# Altium integrated library TI Microcontroller MSP430 16-bit Ultra-Low Power.IntLib: 1463 symbols (part 40 of 130)
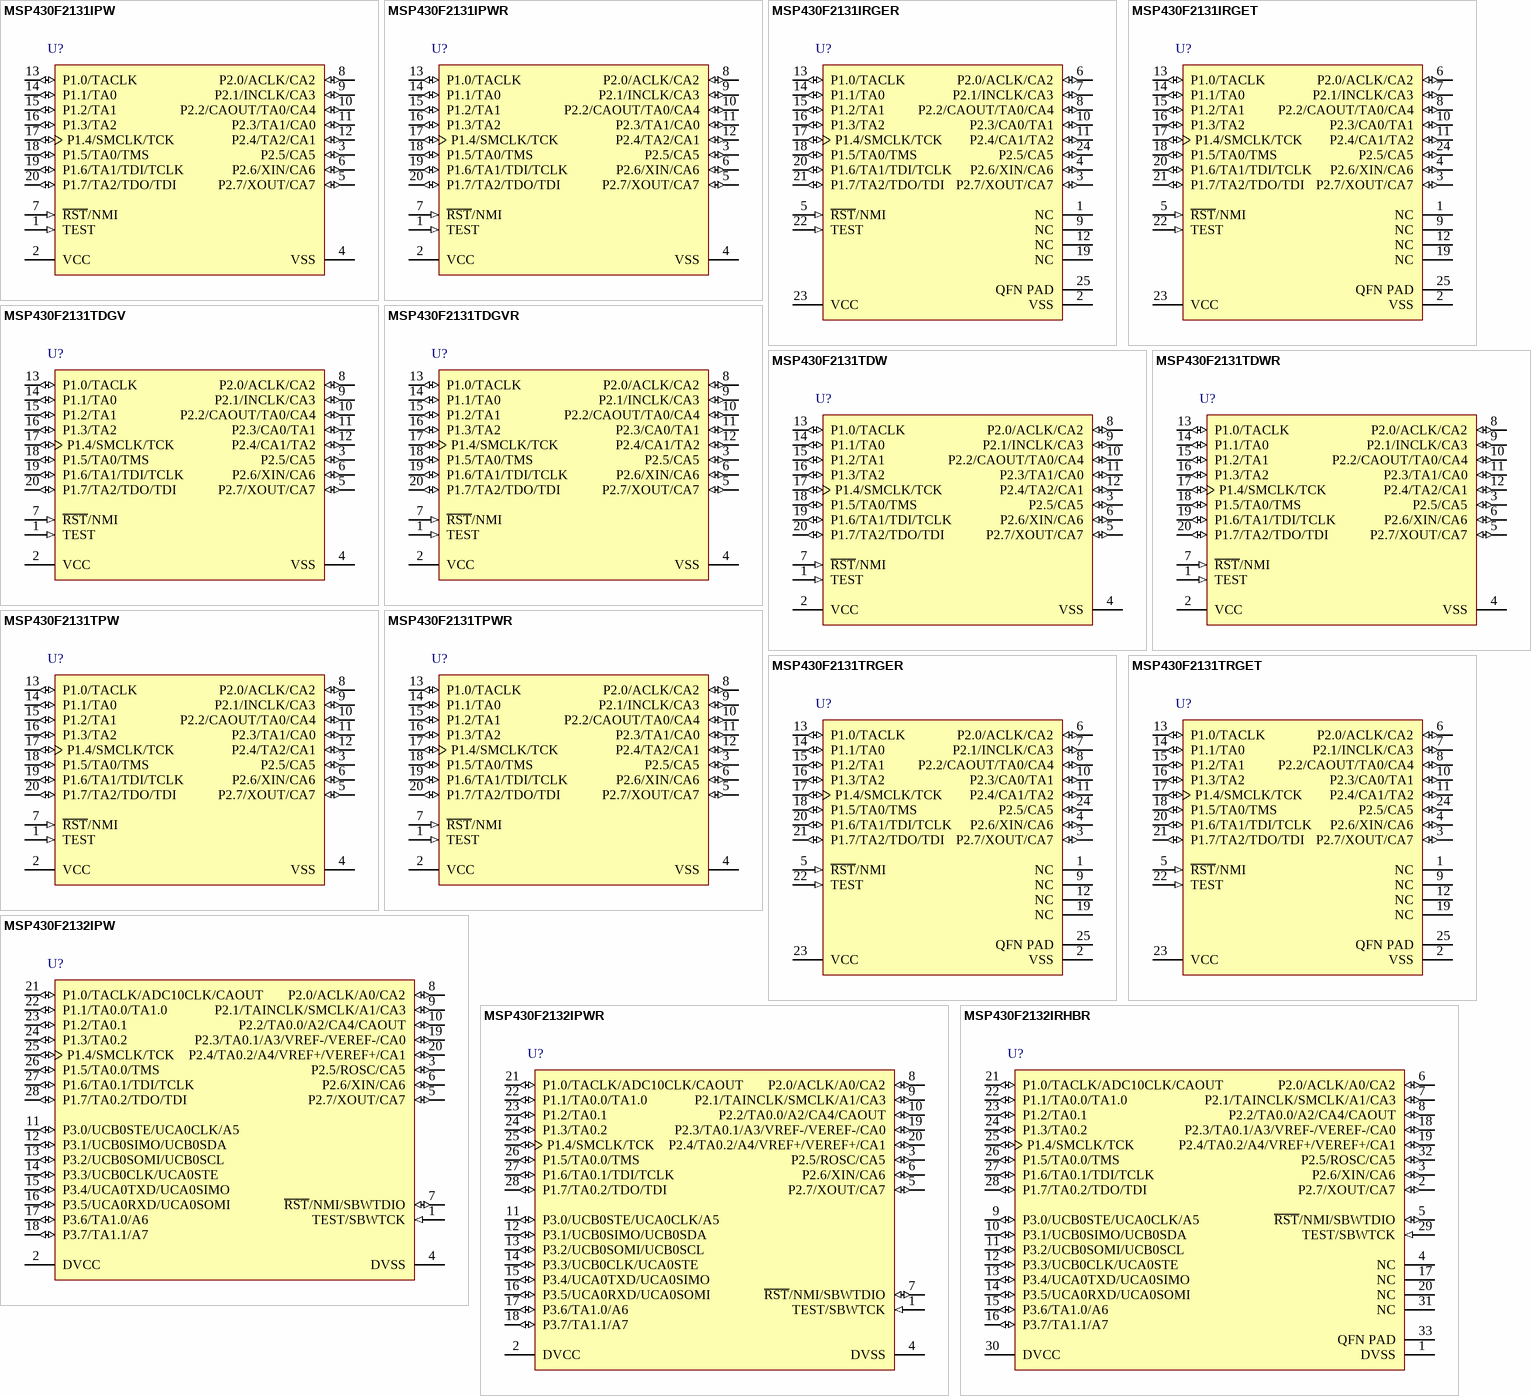
[diagram p356: symbols MSP430F2131IPW to MSP430F2132IRHBR]

## MSP430F2131TDGVR
designator U?
16 MHz Mixed Signal Microcontroller with 8 KB Flash, 256 B SRAM and 16 GPIOs, -40 to 105 degC, 20-pin SOP (DGV), Green (RoHS & no Sb/Br); Manufacturer: Texas Instruments; PartNumber: MSP430F2131TDGVR; ADC: Slope; Brown Out Reset: Yes; Flash(KB): 8; Frequency(MHz): 16; SRAM(B): 256; SubFamily: 2 Series, Extended Temp; Timers - 16-bit: 1; DatasheetVersion: SLAS439F; PackageVersion: 4073251/E; PackageReference: DGV20; PackageDescription: 20-Pin Plastic Small Outline, Body 4.4 x 5 mm, Pitch 0.4 mm; Supplier 1: Digi-Key; Supplier Part Number 1: MSP430F2131TDGV-ND; Supplier 2: Farnell; Supplier Part Number 2: 1753284; Supplier 3: Newark; Supplier Part Number 3: 93R5544; Supplier 4: Mouser; Supplier Part Number 4: 595-MSP430F2131TDGV; Comparators: Yes; Eco-Plan: Green (RoHS & no Sb/Br); GPIO: 16; Watchdog: Yes; Mounting Technology: Surface Mount; Code_JEDEC: MO-194; ComponentLink1Description: Manufacturer URL; ComponentLink1URL: http://www.ti.com/; ComponentLink2Description: Datasheet; ComponentLink2URL: http://www.ti.com/general/docs/lit/getliterature.tsp?genericPartNumber=MSP430F2131&fileType=pdf; ComponentLink3Description: Package Specification; ComponentLink3URL: http://www.ti.com/lit/ml/mpds006c/mpds006c.pdf
footprint TI-DGV20_N (SOP, 20-Leads, Body 5x4.4mm, Pitch 0.4mm, IPC Medium Density)
pins: 1 TEST (in) "Selects test mode for JTAG pins on Port1. The device protection fuse is connected to TEST.", 2 VCC (power) "Supply voltage", 3 P2.5/CA5 (io), 4 VSS (power) "Ground reference", 5 P2.7/XOUT/CA7 (io), 6 P2.6/XIN/CA6 (io), 7 ~{RST}/NMI (in), 8 P2.0/ACLK/CA2 (io), 9 P2.1/INCLK/CA3 (io), 10 P2.2/CAOUT/TA0/CA4 (io), 11 P2.3/CA0/TA1 (io), 12 P2.4/CA1/TA2 (io), 13 P1.0/TACLK (io), 14 P1.1/TA0 (io), 15 P1.2/TA1 (io), 16 P1.3/TA2 (io), 17 P1.4/SMCLK/TCK (io), 18 P1.5/TA0/TMS (io), 19 P1.6/TA1/TDI/TCLK (io), 20 P1.7/TA2/TDO/TDI (io)

## MSP430F2131TDW
designator U?
16 MHz Mixed Signal Microcontroller with 8 KB Flash, 256 B SRAM and 16 GPIOs, -40 to 105 degC, 20-pin SOIC (DW), Green (RoHS & no Sb/Br); Manufacturer: Texas Instruments; PartNumber: MSP430F2131TDW; ADC: Slope; Brown Out Reset: Yes; Flash(KB): 8; Frequency(MHz): 16; SRAM(B): 256; SubFamily: 2 Series, Extended Temp; Timers - 16-bit: 1; DatasheetVersion: SLAS439F; PackageVersion: 4040000-4/G; PackageReference: DW20; PackageDescription: 20-Pin Plastic Small Outline, Body 12.8 x 7.5 mm, Pitch 1.27 mm; Supplier 1: Digi-Key; Supplier Part Number 1: 296-20761-2-ND; Supplier 2: Digi-Key; Supplier Part Number 2: 296-20761-1-ND; Supplier 3: Digi-Key; Supplier Part Number 3: 296-20761-6-ND; Supplier 4: Newark; Supplier Part Number 4: 22M1180; Supplier 5: Mouser; Supplier Part Number 5: 595-MSP430F2131TDGVR; Comparators: Yes; Eco-Plan: Green (RoHS & no Sb/Br); GPIO: 16; Watchdog: Yes; Mounting Technology: Surface Mount; Code_JEDEC: MO-013; ComponentLink1Description: Manufacturer URL; ComponentLink1URL: http://www.ti.com/; ComponentLink2Description: Datasheet; ComponentLink2URL: http://www.ti.com/general/docs/lit/getliterature.tsp?genericPartNumber=MSP430F2131&fileType=pdf; ComponentLink3Description: Package Specification; ComponentLink3URL: http://www.ti.com/lit/ml/mpds173a/mpds173a.pdf
footprint TI-DW20_N (SOIC, 20-Leads, Body 12.8x7.5mm, Pitch 1.27mm, IPC Medium Density)
pins: 1 TEST (in) "Selects test mode for JTAG pins on Port1. The device protection fuse is connected to TEST.", 2 VCC (power) "Supply voltage", 3 P2.5/CA5 (io), 4 VSS (power) "Ground reference", 5 P2.7/XOUT/CA7 (io), 6 P2.6/XIN/CA6 (io), 7 ~{RST}/NMI (in), 8 P2.0/ACLK/CA2 (io), 9 P2.1/INCLK/CA3 (io), 10 P2.2/CAOUT/TA0/CA4 (io), 11 P2.3/TA1/CA0 (io), 12 P2.4/TA2/CA1 (io), 13 P1.0/TACLK (io), 14 P1.1/TA0 (io), 15 P1.2/TA1 (io), 16 P1.3/TA2 (io), 17 P1.4/SMCLK/TCK (io), 18 P1.5/TA0/TMS (io), 19 P1.6/TA1/TDI/TCLK (io), 20 P1.7/TA2/TDO/TDI (io)

## MSP430F2131TDWR
designator U?
16 MHz Mixed Signal Microcontroller with 8 KB Flash, 256 B SRAM and 16 GPIOs, -40 to 105 degC, 20-pin SOIC (DW), Green (RoHS & no Sb/Br); Manufacturer: Texas Instruments; PartNumber: MSP430F2131TDWR; ADC: Slope; Brown Out Reset: Yes; Flash(KB): 8; Frequency(MHz): 16; SRAM(B): 256; SubFamily: 2 Series, Extended Temp; Timers - 16-bit: 1; DatasheetVersion: SLAS439F; PackageVersion: 4040000-4/G; PackageReference: DW20; PackageDescription: 20-Pin Plastic Small Outline, Body 12.8 x 7.5 mm, Pitch 1.27 mm; Supplier 1: Digi-Key; Supplier Part Number 1: MSP430F2131TDW-ND; Supplier 2: Farnell; Supplier Part Number 2: 1753285; Supplier 3: Mouser; Supplier Part Number 3: 595-MSP430F2131TDW; Comparators: Yes; Eco-Plan: Green (RoHS & no Sb/Br); GPIO: 16; Watchdog: Yes; Mounting Technology: Surface Mount; Code_JEDEC: MO-013; ComponentLink1Description: Manufacturer URL; ComponentLink1URL: http://www.ti.com/; ComponentLink2Description: Datasheet; ComponentLink2URL: http://www.ti.com/general/docs/lit/getliterature.tsp?genericPartNumber=MSP430F2131&fileType=pdf; ComponentLink3Description: Package Specification; ComponentLink3URL: http://www.ti.com/lit/ml/mpds173a/mpds173a.pdf
footprint TI-DW20_N (SOIC, 20-Leads, Body 12.8x7.5mm, Pitch 1.27mm, IPC Medium Density)
pins: 1 TEST (in) "Selects test mode for JTAG pins on Port1. The device protection fuse is connected to TEST.", 2 VCC (power) "Supply voltage", 3 P2.5/CA5 (io), 4 VSS (power) "Ground reference", 5 P2.7/XOUT/CA7 (io), 6 P2.6/XIN/CA6 (io), 7 ~{RST}/NMI (in), 8 P2.0/ACLK/CA2 (io), 9 P2.1/INCLK/CA3 (io), 10 P2.2/CAOUT/TA0/CA4 (io), 11 P2.3/TA1/CA0 (io), 12 P2.4/TA2/CA1 (io), 13 P1.0/TACLK (io), 14 P1.1/TA0 (io), 15 P1.2/TA1 (io), 16 P1.3/TA2 (io), 17 P1.4/SMCLK/TCK (io), 18 P1.5/TA0/TMS (io), 19 P1.6/TA1/TDI/TCLK (io), 20 P1.7/TA2/TDO/TDI (io)

## MSP430F2131TPW
designator U?
16 MHz Mixed Signal Microcontroller with 8 KB Flash, 256 B SRAM and 16 GPIOs, -40 to 105 degC, 20-pin SOP (PW), Green (RoHS & no Sb/Br); Manufacturer: Texas Instruments; PartNumber: MSP430F2131TPW; ADC: Slope; Brown Out Reset: Yes; Flash(KB): 8; Frequency(MHz): 16; SRAM(B): 256; SubFamily: 2 Series, Extended Temp; Timers - 16-bit: 1; DatasheetVersion: SLAS439F; PackageVersion: 4040064-5/G; PackageReference: PW20; PackageDescription: 20-Pin Plastic Small Outline, Body 6.5 x 4.4 mm, 0.65 mm Pitch; Supplier 1: Digi-Key; Supplier Part Number 1: 296-20762-2-ND; Supplier 2: Digi-Key; Supplier Part Number 2: 296-20762-1-ND; Supplier 3: Digi-Key; Supplier Part Number 3: 296-20762-6-ND; Supplier 4: Newark; Supplier Part Number 4: 22M1182; Supplier 5: Mouser; Supplier Part Number 5: 595-MSP430F2131TDWR; Comparators: Yes; Eco-Plan: Green (RoHS & no Sb/Br); GPIO: 16; Watchdog: Yes; Mounting Technology: Surface Mount; Code_JEDEC: MO-153; ComponentLink1Description: Manufacturer URL; ComponentLink1URL: http://www.ti.com/; ComponentLink2Description: Datasheet; ComponentLink2URL: http://www.ti.com/general/docs/lit/getliterature.tsp?genericPartNumber=MSP430F2131&fileType=pdf; ComponentLink3Description: Package Specification; ComponentLink3URL: http://www.ti.com.cn/cn/lit/ml/mpds362/mpds362.pdf
footprint TI-PW20_N (SOP, 20-Leads, Body 6.5x4.4mm, Pitch 0.65mm, IPC Medium Density)
pins: 1 TEST (in) "Selects test mode for JTAG pins on Port1. The device protection fuse is connected to TEST.", 2 VCC (power) "Supply voltage", 3 P2.5/CA5 (io), 4 VSS (power) "Ground reference", 5 P2.7/XOUT/CA7 (io), 6 P2.6/XIN/CA6 (io), 7 ~{RST}/NMI (in), 8 P2.0/ACLK/CA2 (io), 9 P2.1/INCLK/CA3 (io), 10 P2.2/CAOUT/TA0/CA4 (io), 11 P2.3/TA1/CA0 (io), 12 P2.4/TA2/CA1 (io), 13 P1.0/TACLK (io), 14 P1.1/TA0 (io), 15 P1.2/TA1 (io), 16 P1.3/TA2 (io), 17 P1.4/SMCLK/TCK (io), 18 P1.5/TA0/TMS (io), 19 P1.6/TA1/TDI/TCLK (io), 20 P1.7/TA2/TDO/TDI (io)

## MSP430F2131TPWR
designator U?
16 MHz Mixed Signal Microcontroller with 8 KB Flash, 256 B SRAM and 16 GPIOs, -40 to 105 degC, 20-pin SOP (PW), Green (RoHS & no Sb/Br); Manufacturer: Texas Instruments; PartNumber: MSP430F2131TPWR; ADC: Slope; Brown Out Reset: Yes; Flash(KB): 8; Frequency(MHz): 16; SRAM(B): 256; SubFamily: 2 Series, Extended Temp; Timers - 16-bit: 1; DatasheetVersion: SLAS439F; PackageVersion: 4040064-5/G; PackageReference: PW20; PackageDescription: 20-Pin Plastic Small Outline, Body 6.5 x 4.4 mm, 0.65 mm Pitch; Supplier 1: Digi-Key; Supplier Part Number 1: MSP430F2131TPW-ND; Supplier 2: Farnell; Supplier Part Number 2: 1753286; Supplier 3: Newark; Supplier Part Number 3: 22M1183; Supplier 4: Mouser; Supplier Part Number 4: 595-MSP430F2131TPW; Comparators: Yes; Eco-Plan: Green (RoHS & no Sb/Br); GPIO: 16; Watchdog: Yes; Mounting Technology: Surface Mount; Code_JEDEC: MO-153; ComponentLink1Description: Manufacturer URL; ComponentLink1URL: http://www.ti.com/; ComponentLink2Description: Datasheet; ComponentLink2URL: http://www.ti.com/general/docs/lit/getliterature.tsp?genericPartNumber=MSP430F2131&fileType=pdf; ComponentLink3Description: Package Specification; ComponentLink3URL: http://www.ti.com.cn/cn/lit/ml/mpds362/mpds362.pdf
footprint TI-PW20_N (SOP, 20-Leads, Body 6.5x4.4mm, Pitch 0.65mm, IPC Medium Density)
pins: 1 TEST (in) "Selects test mode for JTAG pins on Port1. The device protection fuse is connected to TEST.", 2 VCC (power) "Supply voltage", 3 P2.5/CA5 (io), 4 VSS (power) "Ground reference", 5 P2.7/XOUT/CA7 (io), 6 P2.6/XIN/CA6 (io), 7 ~{RST}/NMI (in), 8 P2.0/ACLK/CA2 (io), 9 P2.1/INCLK/CA3 (io), 10 P2.2/CAOUT/TA0/CA4 (io), 11 P2.3/TA1/CA0 (io), 12 P2.4/TA2/CA1 (io), 13 P1.0/TACLK (io), 14 P1.1/TA0 (io), 15 P1.2/TA1 (io), 16 P1.3/TA2 (io), 17 P1.4/SMCLK/TCK (io), 18 P1.5/TA0/TMS (io), 19 P1.6/TA1/TDI/TCLK (io), 20 P1.7/TA2/TDO/TDI (io)

## MSP430F2131TRGER
designator U?
16 MHz Mixed Signal Microcontroller with 8 KB Flash, 256 B SRAM and 16 GPIOs, -40 to 105 degC, 24-pin QFN (RGE), Green (RoHS & no Sb/Br); Manufacturer: Texas Instruments; PartNumber: MSP430F2131TRGER; ADC: Slope; Brown Out Reset: Yes; Flash(KB): 8; Frequency(MHz): 16; SRAM(B): 256; SubFamily: 2 Series, Extended Temp; Timers - 16-bit: 1; DatasheetVersion: SLAS439F; PackageVersion: 4204104/G; PackageReference: RGE24-2450X2450TP; PackageDescription: 24-Pin Plastic Flat Pack, Body 4 x 4 mm, 0.5 mm Pitch; Supplier 1: Digi-Key; Supplier Part Number 1: 296-20763-2-ND; Supplier 2: Digi-Key; Supplier Part Number 2: 296-20763-1-ND; Supplier 3: Digi-Key; Supplier Part Number 3: 296-20763-6-ND; Supplier 4: Newark; Supplier Part Number 4: 22M1184; Supplier 5: Mouser; Supplier Part Number 5: 595-MSP430F2131TPWR; Comparators: Yes; Eco-Plan: Green (RoHS & no Sb/Br); GPIO: 16; Watchdog: Yes; Mounting Technology: Surface Mount; Code_JEDEC: MO-220; ComponentLink1Description: Manufacturer URL; ComponentLink1URL: http://www.ti.com/; ComponentLink2Description: Datasheet; ComponentLink2URL: http://www.ti.com/general/docs/lit/getliterature.tsp?genericPartNumber=MSP430F2131&fileType=pdf; ComponentLink3Description: Package Specification; ComponentLink3URL: http://www.ti.com/litv/pdf/mpqf124f
footprint TI-RGE24-2450X2450TP_N (QFN, 24-Leads, Body 4x4mm, Pitch 0.5mm, Thermal Pad 2.45x2.45mm, IPC Medium Density)
pins: 1 NC "Not internally connected", 2 VSS (power) "Ground reference", 3 P2.7/XOUT/CA7 (io), 4 P2.6/XIN/CA6 (io), 5 ~{RST}/NMI (in), 6 P2.0/ACLK/CA2 (io), 7 P2.1/INCLK/CA3 (io), 8 P2.2/CAOUT/TA0/CA4 (io), 9 NC "Not internally connected", 10 P2.3/CA0/TA1 (io), 11 P2.4/CA1/TA2 (io), 12 NC "Not internally connected", 13 P1.0/TACLK (io), 14 P1.1/TA0 (io), 15 P1.2/TA1 (io), 16 P1.3/TA2 (io), 17 P1.4/SMCLK/TCK (io), 18 P1.5/TA0/TMS (io), 19 NC "Not internally connected", 20 P1.6/TA1/TDI/TCLK (io), 21 P1.7/TA2/TDO/TDI (io), 22 TEST (in) "Selects test mode for JTAG pins on Port1. The device protection fuse is connected to TEST.", 23 VCC (power) "Supply voltage", 24 P2.5/CA5 (io), 25 QFN PAD (power) "QFN package thermal pad. Connect to VSS."

## MSP430F2131TRGET
designator U?
16 MHz Mixed Signal Microcontroller with 8 KB Flash, 256 B SRAM and 16 GPIOs, -40 to 105 degC, 24-pin QFN (RGE), Green (RoHS & no Sb/Br); Manufacturer: Texas Instruments; PartNumber: MSP430F2131TRGET; ADC: Slope; Brown Out Reset: Yes; Flash(KB): 8; Frequency(MHz): 16; SRAM(B): 256; SubFamily: 2 Series, Extended Temp; Timers - 16-bit: 1; DatasheetVersion: SLAS439F; PackageVersion: 4204104/G; PackageReference: RGE24-2450X2450TP; PackageDescription: 24-Pin Plastic Flat Pack, Body 4 x 4 mm, 0.5 mm Pitch; Supplier 1: Digi-Key; Supplier Part Number 1: MSP430F2131TRGER-ND; Supplier 2: Newark; Supplier Part Number 2: 22M1185; Supplier 3: Mouser; Supplier Part Number 3: 595-MSP430F2131TRGER; Comparators: Yes; Eco-Plan: Green (RoHS & no Sb/Br); GPIO: 16; Watchdog: Yes; Mounting Technology: Surface Mount; Code_JEDEC: MO-220; ComponentLink1Description: Manufacturer URL; ComponentLink1URL: http://www.ti.com/; ComponentLink2Description: Datasheet; ComponentLink2URL: http://www.ti.com/general/docs/lit/getliterature.tsp?genericPartNumber=MSP430F2131&fileType=pdf; ComponentLink3Description: Package Specification; ComponentLink3URL: http://www.ti.com/litv/pdf/mpqf124f
footprint TI-RGE24-2450X2450TP_N (QFN, 24-Leads, Body 4x4mm, Pitch 0.5mm, Thermal Pad 2.45x2.45mm, IPC Medium Density)
pins: 1 NC "Not internally connected", 2 VSS (power) "Ground reference", 3 P2.7/XOUT/CA7 (io), 4 P2.6/XIN/CA6 (io), 5 ~{RST}/NMI (in), 6 P2.0/ACLK/CA2 (io), 7 P2.1/INCLK/CA3 (io), 8 P2.2/CAOUT/TA0/CA4 (io), 9 NC "Not internally connected", 10 P2.3/CA0/TA1 (io), 11 P2.4/CA1/TA2 (io), 12 NC "Not internally connected", 13 P1.0/TACLK (io), 14 P1.1/TA0 (io), 15 P1.2/TA1 (io), 16 P1.3/TA2 (io), 17 P1.4/SMCLK/TCK (io), 18 P1.5/TA0/TMS (io), 19 NC "Not internally connected", 20 P1.6/TA1/TDI/TCLK (io), 21 P1.7/TA2/TDO/TDI (io), 22 TEST (in) "Selects test mode for JTAG pins on Port1. The device protection fuse is connected to TEST.", 23 VCC (power) "Supply voltage", 24 P2.5/CA5 (io), 25 QFN PAD (power) "QFN package thermal pad. Connect to VSS."

## MSP430F2132IPW
designator U?
16 MHz Mixed Signal Microcontroller with 8 KB Flash, 512 B SRAM and 24 GPIOs, -40 to 85 degC, 28-pin SOP (PW), Green (RoHS & no Sb/Br); Manufacturer: Texas Instruments; PartNumber: MSP430F2132IPW; ADC: 10-bit SAR; ADC Channels: 8; Brown Out Reset: Yes; Frequency(MHz): 16; GPIO: 24; SRAM(B): 512; SubFamily: 2 Series, Extended Temp; Timers - 16-bit: 2; USCI_A (UART/LIN/IrDA/SPI): 1; DatasheetVersion: SLAS578J; PackageVersion: 4040064-7/G; PackageReference: PW28; PackageDescription: 28-Pin Plastic Small Outline, Body 9.7 x 4.4 mm, Pitch 0.65 mm; Supplier 1: Digi-Key; Supplier Part Number 1: 296-20764-2-ND; Supplier 2: Digi-Key; Supplier Part Number 2: 296-20764-1-ND; Supplier 3: Digi-Key; Supplier Part Number 3: 296-20764-6-ND; Supplier 4: Farnell; Supplier Part Number 4: 1649415; Supplier 5: Newark; Supplier Part Number 5: 22M1186; Supplier 6: Mouser; Supplier Part Number 6: 595-MSP430F2131TRGET; Comparators: Yes; Eco-Plan: Green (RoHS & no Sb/Br); Flash(KB): 8; Temp Sensor: Yes; USCI_B (I2C & SPI): 1; Watchdog: Yes; Mounting Technology: Surface Mount; Code_JEDEC: MO-153; ComponentLink1Description: Manufacturer URL; ComponentLink1URL: http://www.ti.com/; ComponentLink2Description: Datasheet; ComponentLink2URL: http://www.ti.com/general/docs/lit/getliterature.tsp?genericPartNumber=MSP430F2132&fileType=pdf; ComponentLink3Description: Package Specification; ComponentLink3URL: http://www.ti.com/litv/pdf/mpds364
footprint TI-PW28_N (SOP, 28-Leads, Body 9.7x4.4mm, Pitch 0.65mm, IPC Medium Density)
pins: 1 TEST/SBWTCK (in), 2 DVCC (power) "Digital supply voltage", 3 P2.5/ROSC/CA5 (io), 4 DVSS (power) "Digital supply voltage", 5 P2.7/XOUT/CA7 (io), 6 P2.6/XIN/CA6 (io), 7 ~{RST}/NMI/SBWTDIO (io), 8 P2.0/ACLK/A0/CA2 (io), 9 P2.1/TAINCLK/SMCLK/A1/CA3 (io), 10 P2.2/TA0.0/A2/CA4/CAOUT (io), 11 P3.0/UCB0STE/UCA0CLK/A5 (io), 12 P3.1/UCB0SIMO/UCB0SDA (io), 13 P3.2/UCB0SOMI/UCB0SCL (io), 14 P3.3/UCB0CLK/UCA0STE (io), 15 P3.4/UCA0TXD/UCA0SIMO (io), 16 P3.5/UCA0RXD/UCA0SOMI (io), 17 P3.6/TA1.0/A6 (io), 18 P3.7/TA1.1/A7 (io), 19 P2.3/TA0.1/A3/VREF-/VEREF-/CA0 (io), 20 P2.4/TA0.2/A4/VREF+/VEREF+/CA1 (io), 21 P1.0/TACLK/ADC10CLK/CAOUT (io), 22 P1.1/TA0.0/TA1.0 (io), 23 P1.2/TA0.1 (io), 24 P1.3/TA0.2 (io), 25 P1.4/SMCLK/TCK (io), 26 P1.5/TA0.0/TMS (io), 27 P1.6/TA0.1/TDI/TCLK (io), 28 P1.7/TA0.2/TDO/TDI (io)

## MSP430F2132IPWR
designator U?
16 MHz Mixed Signal Microcontroller with 8 KB Flash, 512 B SRAM and 24 GPIOs, -40 to 85 degC, 28-pin SOP (PW), Green (RoHS & no Sb/Br); Manufacturer: Texas Instruments; PartNumber: MSP430F2132IPWR; ADC: 10-bit SAR; ADC Channels: 8; Brown Out Reset: Yes; Frequency(MHz): 16; GPIO: 24; SRAM(B): 512; SubFamily: 2 Series, Extended Temp; Timers - 16-bit: 2; USCI_A (UART/LIN/IrDA/SPI): 1; DatasheetVersion: SLAS578J; PackageVersion: 4040064-7/G; PackageReference: PW28; PackageDescription: 28-Pin Plastic Small Outline, Body 9.7 x 4.4 mm, Pitch 0.65 mm; Supplier 1: Digi-Key; Supplier Part Number 1: 296-33426-5-ND; Supplier 2: Farnell; Supplier Part Number 2: 1649416; Supplier 3: Newark; Supplier Part Number 3: 96M3653; Supplier 4: Mouser; Supplier Part Number 4: 595-MSP430F2132IPW; Comparators: Yes; Eco-Plan: Green (RoHS & no Sb/Br); Flash(KB): 8; Temp Sensor: Yes; USCI_B (I2C & SPI): 1; Watchdog: Yes; Mounting Technology: Surface Mount; Code_JEDEC: MO-153; ComponentLink1Description: Manufacturer URL; ComponentLink1URL: http://www.ti.com/; ComponentLink2Description: Datasheet; ComponentLink2URL: http://www.ti.com/general/docs/lit/getliterature.tsp?genericPartNumber=MSP430F2132&fileType=pdf; ComponentLink3Description: Package Specification; ComponentLink3URL: http://www.ti.com/litv/pdf/mpds364
footprint TI-PW28_N (SOP, 28-Leads, Body 9.7x4.4mm, Pitch 0.65mm, IPC Medium Density)
pins: 1 TEST/SBWTCK (in), 2 DVCC (power) "Digital supply voltage", 3 P2.5/ROSC/CA5 (io), 4 DVSS (power) "Digital supply voltage", 5 P2.7/XOUT/CA7 (io), 6 P2.6/XIN/CA6 (io), 7 ~{RST}/NMI/SBWTDIO (io), 8 P2.0/ACLK/A0/CA2 (io), 9 P2.1/TAINCLK/SMCLK/A1/CA3 (io), 10 P2.2/TA0.0/A2/CA4/CAOUT (io), 11 P3.0/UCB0STE/UCA0CLK/A5 (io), 12 P3.1/UCB0SIMO/UCB0SDA (io), 13 P3.2/UCB0SOMI/UCB0SCL (io), 14 P3.3/UCB0CLK/UCA0STE (io), 15 P3.4/UCA0TXD/UCA0SIMO (io), 16 P3.5/UCA0RXD/UCA0SOMI (io), 17 P3.6/TA1.0/A6 (io), 18 P3.7/TA1.1/A7 (io), 19 P2.3/TA0.1/A3/VREF-/VEREF-/CA0 (io), 20 P2.4/TA0.2/A4/VREF+/VEREF+/CA1 (io), 21 P1.0/TACLK/ADC10CLK/CAOUT (io), 22 P1.1/TA0.0/TA1.0 (io), 23 P1.2/TA0.1 (io), 24 P1.3/TA0.2 (io), 25 P1.4/SMCLK/TCK (io), 26 P1.5/TA0.0/TMS (io), 27 P1.6/TA0.1/TDI/TCLK (io), 28 P1.7/TA0.2/TDO/TDI (io)

## MSP430F2132IRHBR
designator U?
16 MHz Mixed Signal Microcontroller with 8 KB Flash, 512 B SRAM and 24 GPIOs, -40 to 85 degC, 32-pin QFN (RHB), Green (RoHS & no Sb/Br); Manufacturer: Texas Instruments; PartNumber: MSP430F2132IRHBR; ADC: 10-bit SAR; ADC Channels: 8; Brown Out Reset: Yes; Frequency(MHz): 16; GPIO: 24; SRAM(B): 512; SubFamily: 2 Series, Extended Temp; Timers - 16-bit: 2; USCI_A (UART/LIN/IrDA/SPI): 1; DatasheetVersion: SLAS578J; PackageVersion: 4204326/D; PackageReference: RHB32-3450X3450TP; PackageDescription: 32-Pin Plastic Flat Pack, Body 5 x 5 mm, Pitch 0.5 mm; Supplier 1: Digi-Key; Supplier Part Number 1: 296-23367-2-ND; Supplier 2: Digi-Key; Supplier Part Number 2: 296-23367-1-ND; Supplier 3: Digi-Key; Supplier Part Number 3: 296-23367-6-ND; Supplier 4: Farnell; Supplier Part Number 4: 1848734; Supplier 5: Newark; Supplier Part Number 5: 82R7749; Supplier 6: Mouser; Supplier Part Number 6: 595-MSP430F2132IPWR; Comparators: Yes; Eco-Plan: Green (RoHS & no Sb/Br); Flash(KB): 8; Temp Sensor: Yes; USCI_B (I2C & SPI): 1; Watchdog: Yes; Mounting Technology: Surface Mount; Code_JEDEC: MO-220; ComponentLink1Description: Manufacturer URL; ComponentLink1URL: http://www.ti.com/; ComponentLink2Description: Datasheet; ComponentLink2URL: http://www.ti.com/general/docs/lit/getliterature.tsp?genericPartNumber=MSP430F2132&fileType=pdf; ComponentLink3Description: Package Specification; ComponentLink3URL: http://www.ti.com/lit/ml/mpqf130c/mpqf130c.pdf
footprint TI-RHB32-3450X3450TP_N (QFN, 32-Leads, Body 5x5mm, Pitch 0.5mm, Thermal Pad 3.45x3.45mm, IPC Medium Density)
pins: 1 DVSS (power) "Digital supply voltage", 2 P2.7/XOUT/CA7 (io), 3 P2.6/XIN/CA6 (io), 4 NC "Not connected internally. Connection to VSS is recommended.", 5 ~{RST}/NMI/SBWTDIO (io), 6 P2.0/ACLK/A0/CA2 (io), 7 P2.1/TAINCLK/SMCLK/A1/CA3 (io), 8 P2.2/TA0.0/A2/CA4/CAOUT (io), 9 P3.0/UCB0STE/UCA0CLK/A5 (io), 10 P3.1/UCB0SIMO/UCB0SDA (io), 11 P3.2/UCB0SOMI/UCB0SCL (io), 12 P3.3/UCB0CLK/UCA0STE (io), 13 P3.4/UCA0TXD/UCA0SIMO (io), 14 P3.5/UCA0RXD/UCA0SOMI (io), 15 P3.6/TA1.0/A6 (io), 16 P3.7/TA1.1/A7 (io), 17 NC "Not connected internally. Connection to VSS is recommended.", 18 P2.3/TA0.1/A3/VREF-/VEREF-/CA0 (io), 19 P2.4/TA0.2/A4/VREF+/VEREF+/CA1 (io), 20 NC "Not connected internally. Connection to VSS is recommended.", 21 P1.0/TACLK/ADC10CLK/CAOUT (io), 22 P1.1/TA0.0/TA1.0 (io), 23 P1.2/TA0.1 (io), 24 P1.3/TA0.2 (io), 25 P1.4/SMCLK/TCK (io), 26 P1.5/TA0.0/TMS (io), 27 P1.6/TA0.1/TDI/TCLK (io), 28 P1.7/TA0.2/TDO/TDI (io), 29 TEST/SBWTCK (in), 30 DVCC (power) "Digital supply voltage", 31 NC "Not connected internally. Connection to VSS is recommended.", 32 P2.5/ROSC/CA5 (io), 33 QFN PAD (power) "QFN package.pad (RHB, RTV packages). Connection to DVSS is recommended."

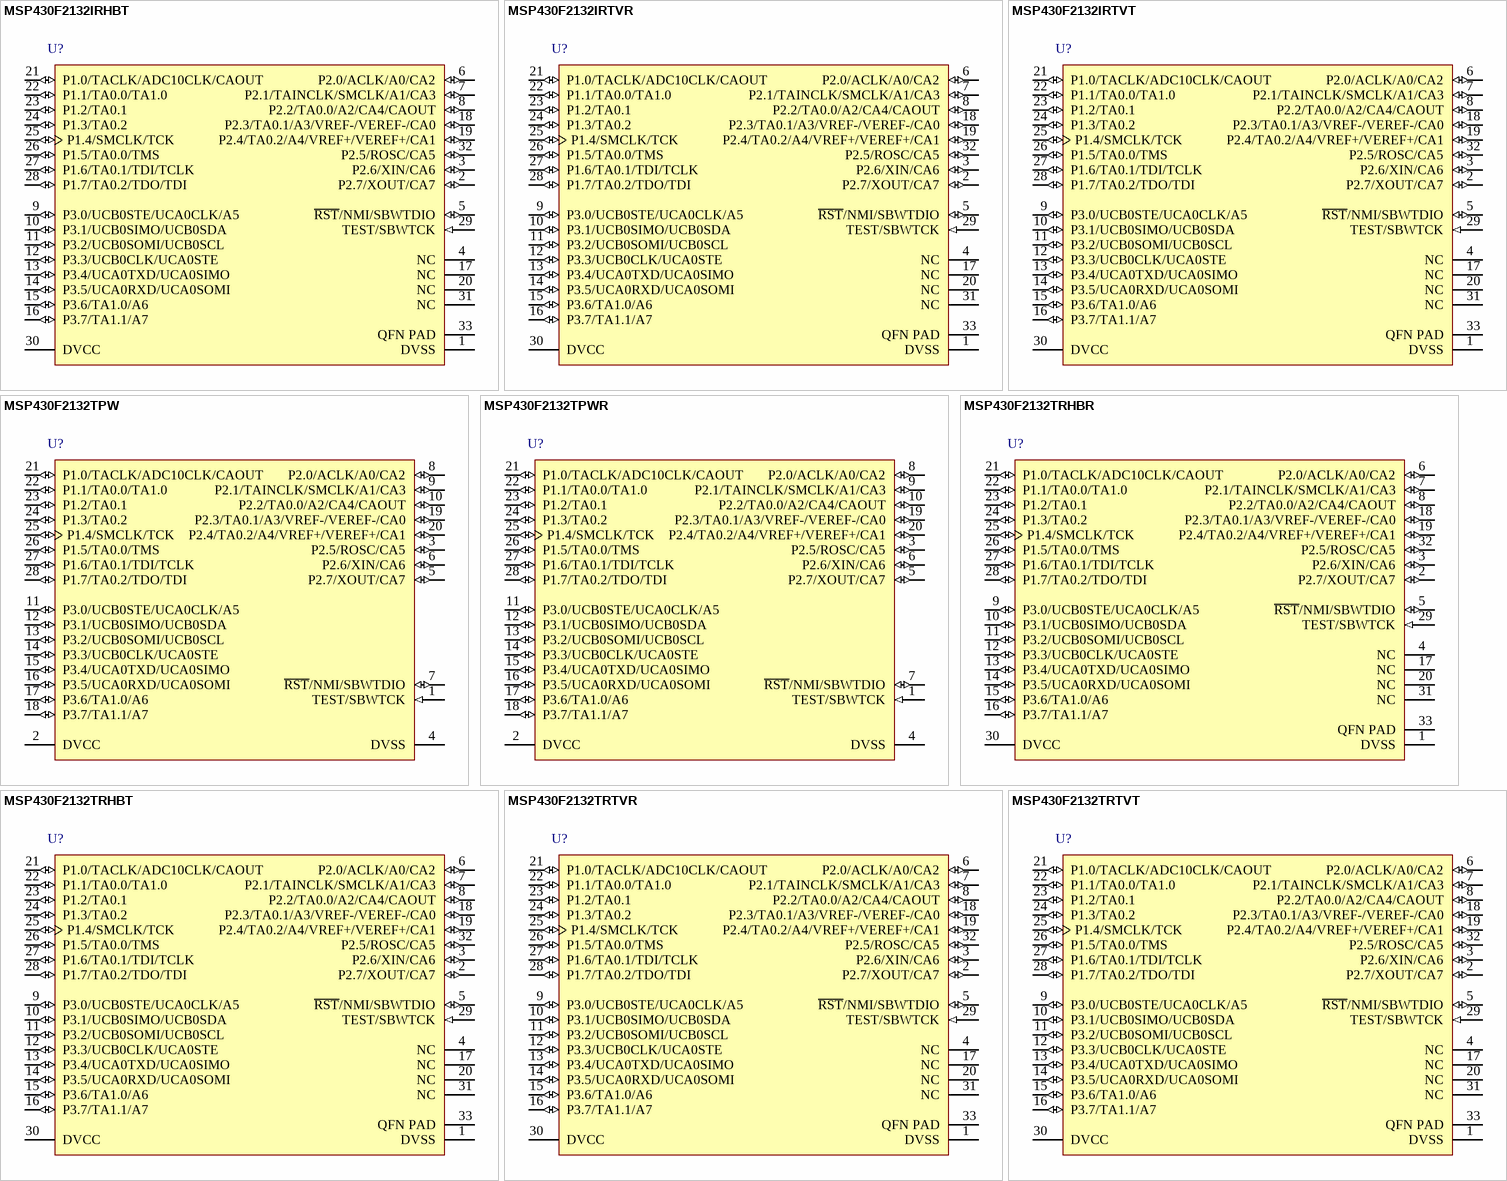
[diagram p58: symbols MSP430F2132IRHBT to MSP430F2132TRTVT]

## MSP430F2132IRHBT
designator U?
16 MHz Mixed Signal Microcontroller with 8 KB Flash, 512 B SRAM and 24 GPIOs, -40 to 85 degC, 32-pin QFN (RHB), Green (RoHS & no Sb/Br); Manufacturer: Texas Instruments; PartNumber: MSP430F2132IRHBT; ADC: 10-bit SAR; ADC Channels: 8; Brown Out Reset: Yes; Frequency(MHz): 16; GPIO: 24; SRAM(B): 512; SubFamily: 2 Series, Extended Temp; Timers - 16-bit: 2; USCI_A (UART/LIN/IrDA/SPI): 1; DatasheetVersion: SLAS578J; PackageVersion: 4204326/D; PackageReference: RHB32-3450X3450TP; PackageDescription: 32-Pin Plastic Flat Pack, Body 5 x 5 mm, Pitch 0.5 mm; Supplier 1: Digi-Key; Supplier Part Number 1: 296-23368-2-ND; Supplier 2: Digi-Key; Supplier Part Number 2: 296-23368-1-ND; Supplier 3: Digi-Key; Supplier Part Number 3: 296-23368-6-ND; Supplier 4: Farnell; Supplier Part Number 4: 1848930; Supplier 5: Newark; Supplier Part Number 5: 96M3655; Supplier 6: Mouser; Supplier Part Number 6: 595-MSP430F2132IRHBR; Comparators: Yes; Eco-Plan: Green (RoHS & no Sb/Br); Flash(KB): 8; Temp Sensor: Yes; USCI_B (I2C & SPI): 1; Watchdog: Yes; Mounting Technology: Surface Mount; Code_JEDEC: MO-220; ComponentLink1Description: Manufacturer URL; ComponentLink1URL: http://www.ti.com/; ComponentLink2Description: Datasheet; ComponentLink2URL: http://www.ti.com/general/docs/lit/getliterature.tsp?genericPartNumber=MSP430F2132&fileType=pdf; ComponentLink3Description: Package Specification; ComponentLink3URL: http://www.ti.com/lit/ml/mpqf130c/mpqf130c.pdf
footprint TI-RHB32-3450X3450TP_N (QFN, 32-Leads, Body 5x5mm, Pitch 0.5mm, Thermal Pad 3.45x3.45mm, IPC Medium Density)
pins: 1 DVSS (power) "Digital supply voltage", 2 P2.7/XOUT/CA7 (io), 3 P2.6/XIN/CA6 (io), 4 NC "Not connected internally. Connection to VSS is recommended.", 5 ~{RST}/NMI/SBWTDIO (io), 6 P2.0/ACLK/A0/CA2 (io), 7 P2.1/TAINCLK/SMCLK/A1/CA3 (io), 8 P2.2/TA0.0/A2/CA4/CAOUT (io), 9 P3.0/UCB0STE/UCA0CLK/A5 (io), 10 P3.1/UCB0SIMO/UCB0SDA (io), 11 P3.2/UCB0SOMI/UCB0SCL (io), 12 P3.3/UCB0CLK/UCA0STE (io), 13 P3.4/UCA0TXD/UCA0SIMO (io), 14 P3.5/UCA0RXD/UCA0SOMI (io), 15 P3.6/TA1.0/A6 (io), 16 P3.7/TA1.1/A7 (io), 17 NC "Not connected internally. Connection to VSS is recommended.", 18 P2.3/TA0.1/A3/VREF-/VEREF-/CA0 (io), 19 P2.4/TA0.2/A4/VREF+/VEREF+/CA1 (io), 20 NC "Not connected internally. Connection to VSS is recommended.", 21 P1.0/TACLK/ADC10CLK/CAOUT (io), 22 P1.1/TA0.0/TA1.0 (io), 23 P1.2/TA0.1 (io), 24 P1.3/TA0.2 (io), 25 P1.4/SMCLK/TCK (io), 26 P1.5/TA0.0/TMS (io), 27 P1.6/TA0.1/TDI/TCLK (io), 28 P1.7/TA0.2/TDO/TDI (io), 29 TEST/SBWTCK (in), 30 DVCC (power) "Digital supply voltage", 31 NC "Not connected internally. Connection to VSS is recommended.", 32 P2.5/ROSC/CA5 (io), 33 QFN PAD (power) "QFN package.pad (RHB, RTV packages). Connection to DVSS is recommended."

## MSP430F2132IRTVR
designator U?
16 MHz Mixed Signal Microcontroller with 8 KB Flash, 512 B SRAM and 24 GPIOs, -40 to 85 degC, 32-pin QFN (RTV), Green (RoHS & no Sb/Br); Manufacturer: Texas Instruments; PartNumber: MSP430F2132IRTVR; ADC: 10-bit SAR; ADC Channels: 8; Brown Out Reset: Yes; Frequency(MHz): 16; GPIO: 24; SRAM(B): 512; SubFamily: 2 Series, Extended Temp; Timers - 16-bit: 2; USCI_A (UART/LIN/IrDA/SPI): 1; DatasheetVersion: SLAS578J; PackageReference: RTV32-3450X3450TP; PackageDescription: 32-Pin Plastic Flat Pack, Body 5.00 x 5.00 mm, Pitch 0.50 mm; Supplier 1: Digi-Key; Supplier Part Number 1: 296-25176-2-ND; Supplier 2: Digi-Key; Supplier Part Number 2: 296-25176-1-ND; Supplier 3: Digi-Key; Supplier Part Number 3: 296-25176-6-ND; Supplier 4: Farnell; Supplier Part Number 4: 1753287; Supplier 5: Newark; Supplier Part Number 5: 73R4499; Supplier 6: Newark; Supplier Part Number 6: 96M3656; Supplier 7: Mouser; Supplier Part Number 7: 595-MSP430F2132IRHBT; Comparators: Yes; Eco-Plan: Green (RoHS & no Sb/Br); Flash(KB): 8; Temp Sensor: Yes; USCI_B (I2C & SPI): 1; Watchdog: Yes; Mounting Technology: Surface Mount; Code_JEDEC: MO-220; ComponentLink1Description: Manufacturer URL; ComponentLink1URL: http://www.ti.com/; ComponentLink2Description: Datasheet; ComponentLink2URL: http://www.ti.com/general/docs/lit/getliterature.tsp?genericPartNumber=MSP430F2132&fileType=pdf; ComponentLink3Description: Package Specification; ComponentLink3URL: http://www.ti.com/litv/pdf/mpqf166b
footprint TI-RTV32-3450X3450TP_N (QFN, 32-Leads, Body 5x5mm, Pitch 0.5mm, Thermal Pad 3.45x3.45mm, IPC Medium Density)
pins: 1 DVSS (power) "Digital supply voltage", 2 P2.7/XOUT/CA7 (io), 3 P2.6/XIN/CA6 (io), 4 NC "Not connected internally. Connection to VSS is recommended.", 5 ~{RST}/NMI/SBWTDIO (io), 6 P2.0/ACLK/A0/CA2 (io), 7 P2.1/TAINCLK/SMCLK/A1/CA3 (io), 8 P2.2/TA0.0/A2/CA4/CAOUT (io), 9 P3.0/UCB0STE/UCA0CLK/A5 (io), 10 P3.1/UCB0SIMO/UCB0SDA (io), 11 P3.2/UCB0SOMI/UCB0SCL (io), 12 P3.3/UCB0CLK/UCA0STE (io), 13 P3.4/UCA0TXD/UCA0SIMO (io), 14 P3.5/UCA0RXD/UCA0SOMI (io), 15 P3.6/TA1.0/A6 (io), 16 P3.7/TA1.1/A7 (io), 17 NC "Not connected internally. Connection to VSS is recommended.", 18 P2.3/TA0.1/A3/VREF-/VEREF-/CA0 (io), 19 P2.4/TA0.2/A4/VREF+/VEREF+/CA1 (io), 20 NC "Not connected internally. Connection to VSS is recommended.", 21 P1.0/TACLK/ADC10CLK/CAOUT (io), 22 P1.1/TA0.0/TA1.0 (io), 23 P1.2/TA0.1 (io), 24 P1.3/TA0.2 (io), 25 P1.4/SMCLK/TCK (io), 26 P1.5/TA0.0/TMS (io), 27 P1.6/TA0.1/TDI/TCLK (io), 28 P1.7/TA0.2/TDO/TDI (io), 29 TEST/SBWTCK (in), 30 DVCC (power) "Digital supply voltage", 31 NC "Not connected internally. Connection to VSS is recommended.", 32 P2.5/ROSC/CA5 (io), 33 QFN PAD (power) "QFN package.pad (RHB, RTV packages). Connection to DVSS is recommended."

## MSP430F2132IRTVT
designator U?
16 MHz Mixed Signal Microcontroller with 8 KB Flash, 512 B SRAM and 24 GPIOs, -40 to 85 degC, 32-pin QFN (RTV), Green (RoHS & no Sb/Br); Manufacturer: Texas Instruments; PartNumber: MSP430F2132IRTVT; ADC: 10-bit SAR; ADC Channels: 8; Brown Out Reset: Yes; Frequency(MHz): 16; GPIO: 24; SRAM(B): 512; SubFamily: 2 Series, Extended Temp; Timers - 16-bit: 2; USCI_A (UART/LIN/IrDA/SPI): 1; DatasheetVersion: SLAS578J; PackageReference: RTV32-3450X3450TP; PackageDescription: 32-Pin Plastic Flat Pack, Body 5.00 x 5.00 mm, Pitch 0.50 mm; Supplier 1: Digi-Key; Supplier Part Number 1: MSP430F2132IRTVR-ND; Supplier 2: Mouser; Supplier Part Number 2: 595-MSP430F2132IRTVR; Comparators: Yes; Eco-Plan: Green (RoHS & no Sb/Br); Flash(KB): 8; Temp Sensor: Yes; USCI_B (I2C & SPI): 1; Watchdog: Yes; Mounting Technology: Surface Mount; Code_JEDEC: MO-220; ComponentLink1Description: Manufacturer URL; ComponentLink1URL: http://www.ti.com/; ComponentLink2Description: Datasheet; ComponentLink2URL: http://www.ti.com/general/docs/lit/getliterature.tsp?genericPartNumber=MSP430F2132&fileType=pdf; ComponentLink3Description: Package Specification; ComponentLink3URL: http://www.ti.com/litv/pdf/mpqf166b
footprint TI-RTV32-3450X3450TP_N (QFN, 32-Leads, Body 5x5mm, Pitch 0.5mm, Thermal Pad 3.45x3.45mm, IPC Medium Density)
pins: 1 DVSS (power) "Digital supply voltage", 2 P2.7/XOUT/CA7 (io), 3 P2.6/XIN/CA6 (io), 4 NC "Not connected internally. Connection to VSS is recommended.", 5 ~{RST}/NMI/SBWTDIO (io), 6 P2.0/ACLK/A0/CA2 (io), 7 P2.1/TAINCLK/SMCLK/A1/CA3 (io), 8 P2.2/TA0.0/A2/CA4/CAOUT (io), 9 P3.0/UCB0STE/UCA0CLK/A5 (io), 10 P3.1/UCB0SIMO/UCB0SDA (io), 11 P3.2/UCB0SOMI/UCB0SCL (io), 12 P3.3/UCB0CLK/UCA0STE (io), 13 P3.4/UCA0TXD/UCA0SIMO (io), 14 P3.5/UCA0RXD/UCA0SOMI (io), 15 P3.6/TA1.0/A6 (io), 16 P3.7/TA1.1/A7 (io), 17 NC "Not connected internally. Connection to VSS is recommended.", 18 P2.3/TA0.1/A3/VREF-/VEREF-/CA0 (io), 19 P2.4/TA0.2/A4/VREF+/VEREF+/CA1 (io), 20 NC "Not connected internally. Connection to VSS is recommended.", 21 P1.0/TACLK/ADC10CLK/CAOUT (io), 22 P1.1/TA0.0/TA1.0 (io), 23 P1.2/TA0.1 (io), 24 P1.3/TA0.2 (io), 25 P1.4/SMCLK/TCK (io), 26 P1.5/TA0.0/TMS (io), 27 P1.6/TA0.1/TDI/TCLK (io), 28 P1.7/TA0.2/TDO/TDI (io), 29 TEST/SBWTCK (in), 30 DVCC (power) "Digital supply voltage", 31 NC "Not connected internally. Connection to VSS is recommended.", 32 P2.5/ROSC/CA5 (io), 33 QFN PAD (power) "QFN package.pad (RHB, RTV packages). Connection to DVSS is recommended."

## MSP430F2132TPW
designator U?
16 MHz Mixed Signal Microcontroller with 8 KB Flash, 512 B SRAM and 24 GPIOs, -40 to 105 degC, 28-pin SOP (PW), Green (RoHS & no Sb/Br); Manufacturer: Texas Instruments; PartNumber: MSP430F2132TPW; ADC: 10-bit SAR; ADC Channels: 8; Brown Out Reset: Yes; Frequency(MHz): 16; GPIO: 24; SRAM(B): 512; SubFamily: 2 Series, Extended Temp; Timers - 16-bit: 2; USCI_A (UART/LIN/IrDA/SPI): 1; DatasheetVersion: SLAS578J; PackageVersion: 4040064-7/G; PackageReference: PW28; PackageDescription: 28-Pin Plastic Small Outline, Body 9.7 x 4.4 mm, Pitch 0.65 mm; Supplier 1: Digi-Key; Supplier Part Number 1: MSP430F2132IRTVT-ND; Supplier 2: Mouser; Supplier Part Number 2: 595-MSP430F2132IRTVT; Comparators: Yes; Eco-Plan: Green (RoHS & no Sb/Br); Flash(KB): 8; Temp Sensor: Yes; USCI_B (I2C & SPI): 1; Watchdog: Yes; Mounting Technology: Surface Mount; Code_JEDEC: MO-153; ComponentLink1Description: Manufacturer URL; ComponentLink1URL: http://www.ti.com/; ComponentLink2Description: Datasheet; ComponentLink2URL: http://www.ti.com/general/docs/lit/getliterature.tsp?genericPartNumber=MSP430F2132&fileType=pdf; ComponentLink3Description: Package Specification; ComponentLink3URL: http://www.ti.com/litv/pdf/mpds364
footprint TI-PW28_N (SOP, 28-Leads, Body 9.7x4.4mm, Pitch 0.65mm, IPC Medium Density)
pins: 1 TEST/SBWTCK (in), 2 DVCC (power) "Digital supply voltage", 3 P2.5/ROSC/CA5 (io), 4 DVSS (power) "Digital supply voltage", 5 P2.7/XOUT/CA7 (io), 6 P2.6/XIN/CA6 (io), 7 ~{RST}/NMI/SBWTDIO (io), 8 P2.0/ACLK/A0/CA2 (io), 9 P2.1/TAINCLK/SMCLK/A1/CA3 (io), 10 P2.2/TA0.0/A2/CA4/CAOUT (io), 11 P3.0/UCB0STE/UCA0CLK/A5 (io), 12 P3.1/UCB0SIMO/UCB0SDA (io), 13 P3.2/UCB0SOMI/UCB0SCL (io), 14 P3.3/UCB0CLK/UCA0STE (io), 15 P3.4/UCA0TXD/UCA0SIMO (io), 16 P3.5/UCA0RXD/UCA0SOMI (io), 17 P3.6/TA1.0/A6 (io), 18 P3.7/TA1.1/A7 (io), 19 P2.3/TA0.1/A3/VREF-/VEREF-/CA0 (io), 20 P2.4/TA0.2/A4/VREF+/VEREF+/CA1 (io), 21 P1.0/TACLK/ADC10CLK/CAOUT (io), 22 P1.1/TA0.0/TA1.0 (io), 23 P1.2/TA0.1 (io), 24 P1.3/TA0.2 (io), 25 P1.4/SMCLK/TCK (io), 26 P1.5/TA0.0/TMS (io), 27 P1.6/TA0.1/TDI/TCLK (io), 28 P1.7/TA0.2/TDO/TDI (io)

## MSP430F2132TPWR
designator U?
16 MHz Mixed Signal Microcontroller with 8 KB Flash, 512 B SRAM and 24 GPIOs, -40 to 105 degC, 28-pin SOP (PW), Green (RoHS & no Sb/Br); Manufacturer: Texas Instruments; PartNumber: MSP430F2132TPWR; ADC: 10-bit SAR; ADC Channels: 8; Brown Out Reset: Yes; Frequency(MHz): 16; GPIO: 24; SRAM(B): 512; SubFamily: 2 Series, Extended Temp; Timers - 16-bit: 2; USCI_A (UART/LIN/IrDA/SPI): 1; DatasheetVersion: SLAS578J; PackageVersion: 4040064-7/G; PackageReference: PW28; PackageDescription: 28-Pin Plastic Small Outline, Body 9.7 x 4.4 mm, Pitch 0.65 mm; Supplier 1: Digi-Key; Supplier Part Number 1: 296-26202-5-ND; Supplier 2: Farnell; Supplier Part Number 2: 1649417; Supplier 3: Newark; Supplier Part Number 3: 96M3657; Supplier 4: Mouser; Supplier Part Number 4: 595-MSP430F2132TPW; Comparators: Yes; Eco-Plan: Green (RoHS & no Sb/Br); Flash(KB): 8; Temp Sensor: Yes; USCI_B (I2C & SPI): 1; Watchdog: Yes; Mounting Technology: Surface Mount; Code_JEDEC: MO-153; ComponentLink1Description: Manufacturer URL; ComponentLink1URL: http://www.ti.com/; ComponentLink2Description: Datasheet; ComponentLink2URL: http://www.ti.com/general/docs/lit/getliterature.tsp?genericPartNumber=MSP430F2132&fileType=pdf; ComponentLink3Description: Package Specification; ComponentLink3URL: http://www.ti.com/litv/pdf/mpds364
footprint TI-PW28_N (SOP, 28-Leads, Body 9.7x4.4mm, Pitch 0.65mm, IPC Medium Density)
pins: 1 TEST/SBWTCK (in), 2 DVCC (power) "Digital supply voltage", 3 P2.5/ROSC/CA5 (io), 4 DVSS (power) "Digital supply voltage", 5 P2.7/XOUT/CA7 (io), 6 P2.6/XIN/CA6 (io), 7 ~{RST}/NMI/SBWTDIO (io), 8 P2.0/ACLK/A0/CA2 (io), 9 P2.1/TAINCLK/SMCLK/A1/CA3 (io), 10 P2.2/TA0.0/A2/CA4/CAOUT (io), 11 P3.0/UCB0STE/UCA0CLK/A5 (io), 12 P3.1/UCB0SIMO/UCB0SDA (io), 13 P3.2/UCB0SOMI/UCB0SCL (io), 14 P3.3/UCB0CLK/UCA0STE (io), 15 P3.4/UCA0TXD/UCA0SIMO (io), 16 P3.5/UCA0RXD/UCA0SOMI (io), 17 P3.6/TA1.0/A6 (io), 18 P3.7/TA1.1/A7 (io), 19 P2.3/TA0.1/A3/VREF-/VEREF-/CA0 (io), 20 P2.4/TA0.2/A4/VREF+/VEREF+/CA1 (io), 21 P1.0/TACLK/ADC10CLK/CAOUT (io), 22 P1.1/TA0.0/TA1.0 (io), 23 P1.2/TA0.1 (io), 24 P1.3/TA0.2 (io), 25 P1.4/SMCLK/TCK (io), 26 P1.5/TA0.0/TMS (io), 27 P1.6/TA0.1/TDI/TCLK (io), 28 P1.7/TA0.2/TDO/TDI (io)